# Altium schematic symbol library GRM1885C2A470JA01D.SchLib: 1 symbol
Pins are listed as number, name and electrical type; pins without a type are passive.

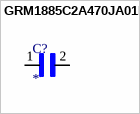
[diagram p0: symbol GRM1885C2A470JA01D]

## GRM1885C2A470JA01D
designator C?
KC 47pF 0603 5% 100V NP0; MP: GRM1885C2A470JA01D; Package: None; Price: None; Value: *; Availability: Unavailable
footprint CAPC1608X90N
pins: 1, 2